# EAGLE library part RV-8803_RV-8803 (library watch_pcb_lib)
Micro Crystal RV-8803 - Temperature compensated RTC Ultra accurate plus/minus 3PPM I2C RTC. Temperature compensated crystal for low drift
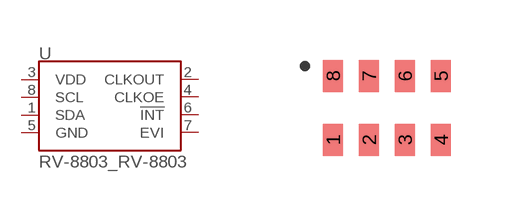
[diagram p5: symbol with the pads of RV-8803_RV-3028; footprint RV-8803_RV-3028]

Designator prefix U

## RV-8803_RV-8803 (PROD_ID: IC-14828; VALUE: RV-8803)  [RV-8803_RV-3028]
1  SDA
2  CLKOUT
3  VDD
4  CLKOE
5  GND
6  !INT
7  EVI
8  SCL

## Footprint RV-8803_RV-3028 (pad centres in mm)
Footprint for the RV-3028 I2C RTC
smd 0.5 x 0.8: 1 -1.35,-0.8; 2 -0.45,-0.8; 3 0.45,-0.8; 4 1.35,-0.8; 5 1.35,0.8; 6 0.45,0.8; 7 -0.45,0.8; 8 -1.35,0.8